# EAGLE library part FM (library microcodes)
FM5324B DC-DC converter with an integrated battery charger
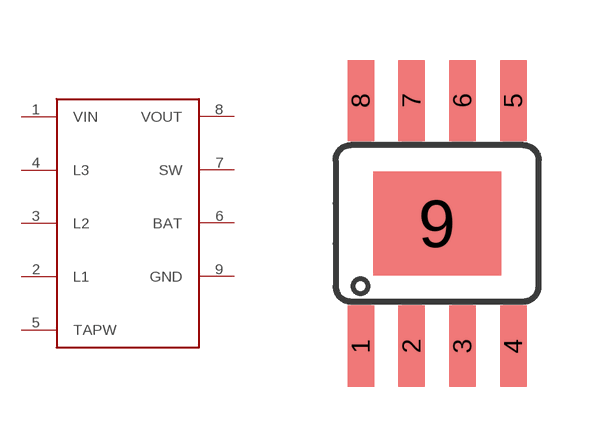
[diagram p9: symbol with the pads of ESOP-8; footprint ESOP-8]

Designator prefix -

## FM  [ESOP-8]
1  VIN
2  L1
3  L2
4  L3
5  TAPW
6  BAT
7  SW
8  VOUT
9  GND

## Footprint ESOP-8 (pad centres in mm)
SOIC 150 mil. based on soic8 footprint from the maxim library. I've added the dissipation pad as per datasheet, changed tPlace elements, named the pins and fixed a weird misalignment on the third pin of the bottom row which I suppose it was the designer's signature.
smd 0.66 x 2.032: 1 -1.905,-3.073; 2 -0.635,-3.073; 3 0.635,-3.073; 4 1.905,-3.073; 5 1.905,3.073; 6 0.635,3.073; 7 -0.635,3.073; 8 -1.905,3.073
smd 3.2 x 2.6: 9 0,0